# Altium footprint library X2QFN-10.PcbLib: 1 footprints
Each footprint in its own frame and in the unit in brackets; x right, y up, seen from the top. Pads: shape width x height; smd on the part's side, far side on the other; paste and mask are expansions set on the pad; w line width, h text height; cw(c..) or ccw(c..) is an arc to the next point about the centre after c.
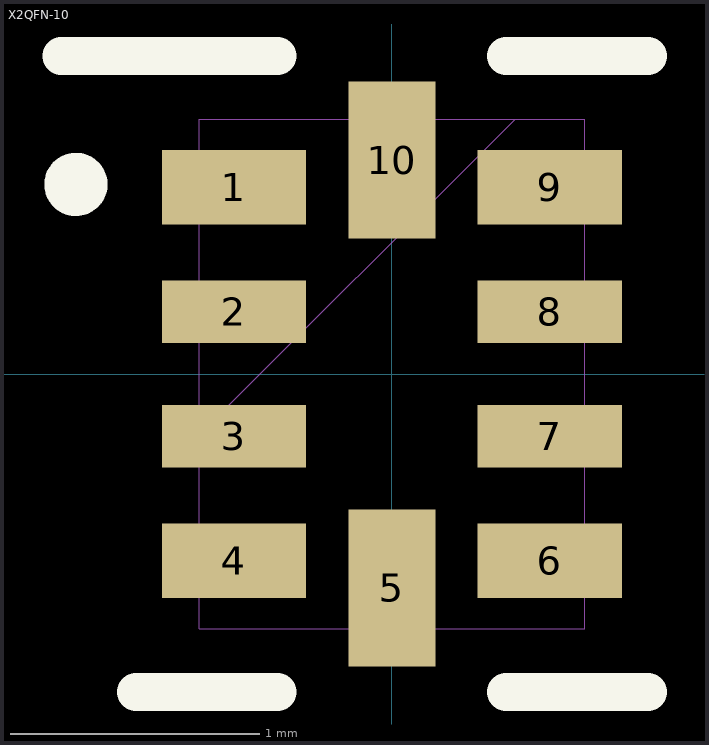
[diagram p0: the footprint, top view; thin cyan lines are the x and y axes]

## X2QFN-10 [mm]
pads (10):
  rect 0.58x0.3 smd paste-0.15: 1(-0.635,0.75) 4(-0.635,-0.75) 6(0.635,-0.75) 9(0.635,0.75)
  rect 0.58x0.25 smd: 2(-0.635,0.25) 3(-0.635,-0.25) 7(0.635,-0.25) 8(0.635,0.25)
  rect 0.35x0.63 smd: 5(0,-0.86) 10(0,0.86)
Top Overlay:
  circle w0.127: c-1.27,0.762 r0.064
  lines w0.152: -1.329,1.279 -0.459,1.279 ; -1.029,-1.279 -0.459,-1.279 ; 0.459,-1.279 1.029,-1.279 ; 0.459,1.279 1.029,1.279
Top Paste:
  region: 0.125,1.125 -0.125,1.125 -0.125,0.595 0.125,0.595
  region: 0.9,0.875 0.37,0.875 0.37,0.625 0.9,0.625
  region: 0.9,0.375 0.37,0.375 0.37,0.125 0.9,0.125
  region: 0.9,-0.125 0.37,-0.125 0.37,-0.375 0.9,-0.375
  region: 0.9,-0.625 0.37,-0.625 0.37,-0.875 0.9,-0.875
  region: 0.125,-0.595 -0.125,-0.595 -0.125,-1.125 0.125,-1.125
  region: -0.37,-0.625 -0.9,-0.625 -0.9,-0.875 -0.37,-0.875
  region: -0.37,-0.125 -0.9,-0.125 -0.9,-0.375 -0.37,-0.375
  region: -0.37,0.375 -0.9,0.375 -0.9,0.125 -0.37,0.125
  region: -0.37,0.875 -0.9,0.875 -0.9,0.625 -0.37,0.625
Top Solder:
  region: 0.2,1.2 -0.2,1.2 -0.2,0.52 0.2,0.52
  region: 0.975,0.95 0.295,0.95 0.295,0.55 0.975,0.55
  region: 0.975,0.45 0.295,0.45 0.295,0.05 0.975,0.05
  region: 0.975,-0.05 0.295,-0.05 0.295,-0.45 0.975,-0.45
  region: 0.975,-0.55 0.295,-0.55 0.295,-0.95 0.975,-0.95
  region: 0.2,-0.52 -0.2,-0.52 -0.2,-1.2 0.2,-1.2
  region: -0.295,-0.55 -0.975,-0.55 -0.975,-0.95 -0.295,-0.95
  region: -0.295,-0.05 -0.975,-0.05 -0.975,-0.45 -0.295,-0.45
  region: -0.295,0.45 -0.975,0.45 -0.975,0.05 -0.295,0.05
  region: -0.295,0.95 -0.975,0.95 -0.975,0.55 -0.295,0.55
Mechanical 1:
  lines w0: -0.775,-0.245 0.495,1.025 ; -0.775,-1.025 -0.775,1.025 0.775,1.025 0.775,-1.025 -0.775,-1.025 ; -0.775,-0.9 -0.775,-0.6 -0.775,-0.9 ; -0.775,-0.4 -0.775,-0.1 -0.775,-0.4 ; -0.775,0.1 -0.775,0.4 -0.775,0.1 ; -0.775,0.6 -0.775,0.9 -0.775,0.6 ; -0.15,-1.025 0.15,-1.025 -0.15,-1.025 ; -0.15,1.025 0.15,1.025 -0.15,1.025 ; 0.775,-0.9 0.775,-0.6 0.775,-0.9 ; 0.775,-0.4 0.775,-0.1 0.775,-0.4 ; 0.775,0.1 0.775,0.4 0.775,0.1 ; 0.775,0.6 0.775,0.9 0.775,0.6
  text "RefDes2" at 0,0 h1.27
3D body: height 0.37, standoff 0.05, extent -0.775,-1.025 0.775,1.025